# Altium footprint library CON ESW-110.PcbLib: 1 footprints
Each footprint in its own frame and in the unit in brackets; x right, y up, seen from the top. Pads: shape width x height; smd on the part's side, far side on the other; paste and mask are expansions set on the pad; w line width, h text height; cw(c..) or ccw(c..) is an arc to the next point about the centre after c.
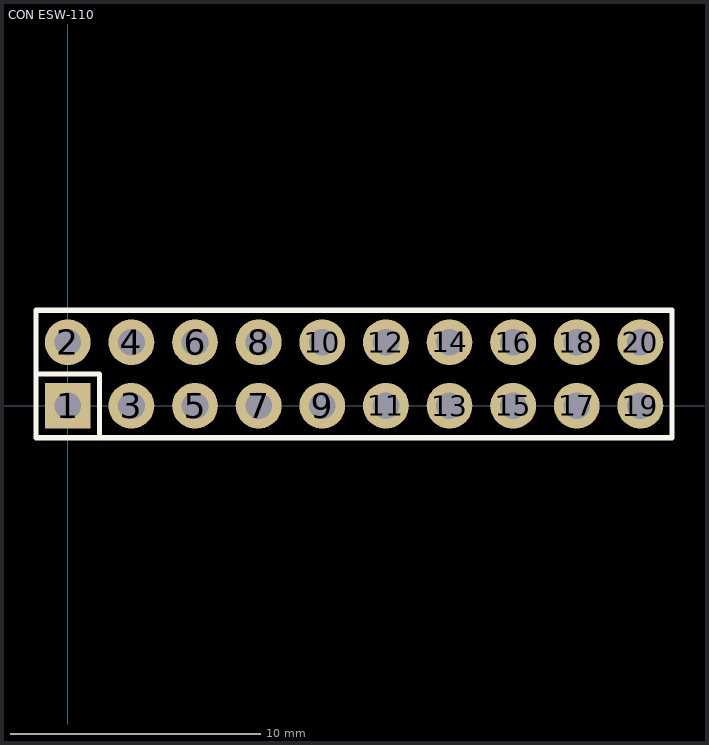
[diagram p0: the footprint, top view; thin cyan lines are the x and y axes]

## CON ESW-110 [mil] "Samtec ESW-100 Socket Strip"
pads (20):
  rect 72x72 hole 42: 1(0,0)
  round 72 hole 42: 2(0,100) 3(100,0) 4(100,100) 5(200,0) 6(200,100) 7(300,0) 8(300,100) 9(400,0) 10(400,100) 11(500,0) 12(500,100) 13(600,0) 14(600,100) 15(700,0) 16(700,100) 17(800,0) 18(800,100) 19(900,0) 20(900,100)
TopOverlay:
  lines w8: -49.61,49.77 50,49.77 50,-50.23 ; -50.25,-50.23 -50.25,150.21 125.19,150.21 950,150.21 950,-50.23 -50.25,-50.23
Mechanical4:
  text ".341" at 0,0 h1
3D body: height 535.6, standoff -189.4, extent -62.28,-51.35 957.72,148.65